# Altium footprint library SOT50P160X90-3N.PcbLib: 1 footprints
Each footprint in its own frame and in the unit in brackets; x right, y up, seen from the top. Pads: shape width x height; smd on the part's side, far side on the other; paste and mask are expansions set on the pad; w line width, h text height; cw(c..) or ccw(c..) is an arc to the next point about the centre after c.
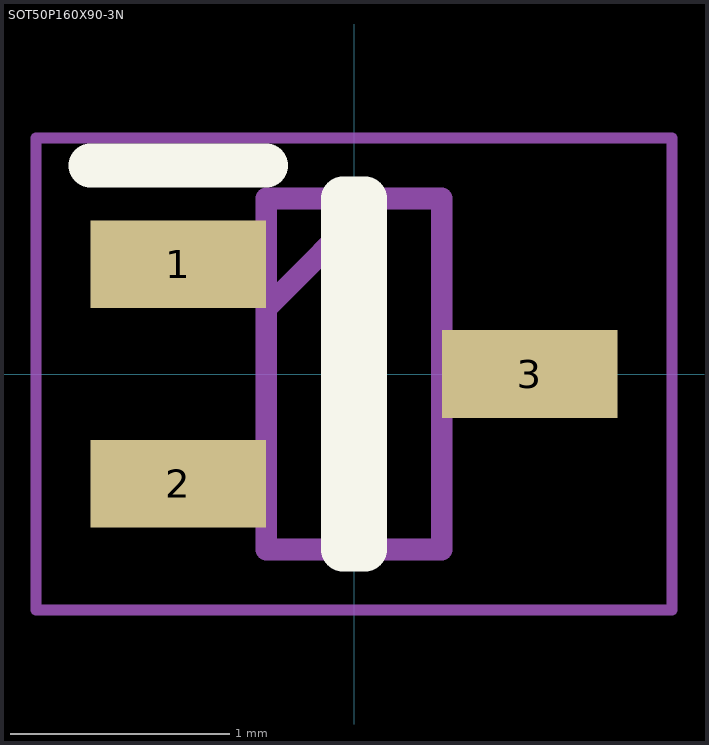
[diagram p0: the footprint, top view; thin cyan lines are the x and y axes]

## SOT50P160X90-3N [mm]
pads (3):
  rect 0.8x0.4 smd: 1(-0.8,0.5) 2(-0.8,-0.5) 3(0.8,0)
Top Overlay:
  lines w0.2: -1.2,0.95 -0.4,0.95 ; -0.05,-0.8 0.05,-0.8 0.05,0.8 -0.05,0.8 -0.05,-0.8
Mechanical 15:
  lines w0.1: -0.4,0.3 0.1,0.8 ; -0.4,-0.8 0.4,-0.8 0.4,0.8 -0.4,0.8 -0.4,-0.8
Mechanical 20:
  lines w0.05: -1.45,-1.075 1.45,-1.075 1.45,1.075 -1.45,1.075 -1.45,-1.075